# Altium footprint library SODFL540X362X240L123X205N.PcbLib: 1 footprints
Each footprint in its own frame and in the unit in brackets; x right, y up, seen from the top. Pads: shape width x height; smd on the part's side, far side on the other; paste and mask are expansions set on the pad; w line width, h text height; cw(c..) or ccw(c..) is an arc to the next point about the centre after c.
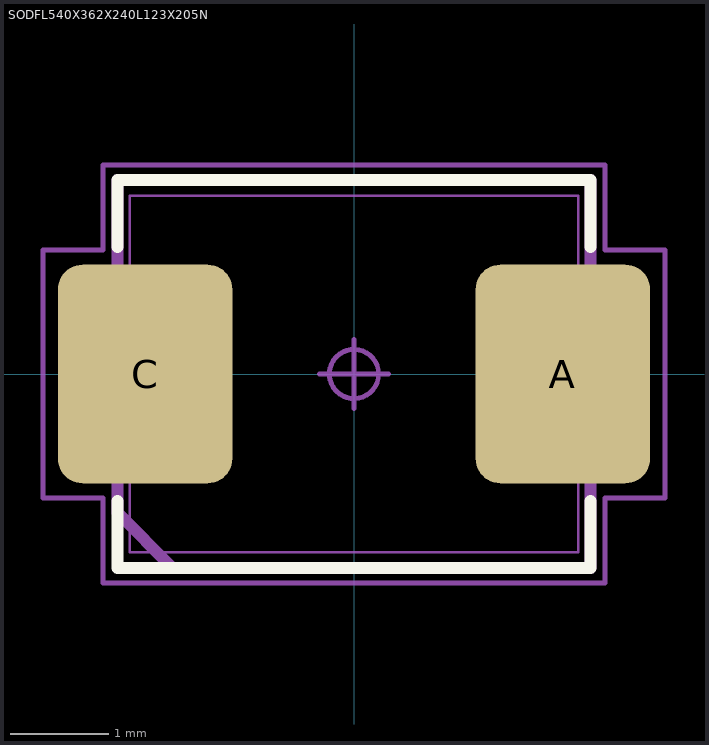
[diagram p0: the footprint, top view; thin cyan lines are the x and y axes]

## SODFL540X362X240L123X205N [mm] "Diode, Small Outline Diode Flat Lead (SODFL); 4.55 mm L X 3.62 mm W X 2.40 mm H body"
height 2.4
pads (2):
  rrect28% 1.77x2.22 smd: A(2.12,0) C(-2.12,0)
Top Overlay:
  lines w0.12: -2.4,-1.29 -2.4,-1.97 2.4,-1.97 2.4,-1.29 ; -2.4,1.29 -2.4,1.97 2.4,1.97 2.4,1.29
Mechanical 3:
  lines w0.12: -2.4,-1.41 -1.84,-1.97 2.4,-1.97 2.4,1.97 -2.4,1.97 -2.4,-1.41
Mechanical 5:
  lines w0.025: -2.7,-1.025 -1.465,-1.025 -1.465,1.025 -2.7,1.025 -2.7,-1.025 ; -2.275,-1.81 -2.275,1.81 2.275,1.81 2.275,-1.81 -2.275,-1.81 ; 1.465,-1.025 1.465,1.025 2.7,1.025 2.7,-1.025 1.465,-1.025
Mechanical 7:
  circle w0.05: c0,0 r0.25
  lines w0.05: -0.35,0 0.35,0 ; 0,-0.35 0,0.35 ; -3.155,-1.26 -3.155,1.26 -2.55,1.26 -2.55,2.12 2.55,2.12 2.55,1.26 3.155,1.26 3.155,-1.26 2.55,-1.26 2.55,-2.12 -2.55,-2.12 -2.55,-1.26 -3.155,-1.26
Mechanical 9:
  text "'.Designator'" at -5.715,-0.381 h1
3D body "SODFL540X362X240L123X205.STEP": height 2.4, standoff 0, extent -2.7,-1.81 2.7,1.81
3D body: height 1, standoff 0, extent -3.155,-2.12 3.155,2.12